# Altium schematic symbol library OP07CP.SchLib: 1 symbol
Pins are listed as number, name and electrical type; pins without a type are passive.

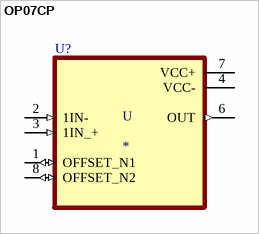
[diagram p0: symbol OP07CP]

## OP07CP
designator U
Low-Offset Voltage Operational Amplifier; MP: OP07CP; MF: Texas Instruments; Package: PDIP-8 Texas Instruments; Availability: Unavailable; Texas_Instruments-Purchase-URL: https://snapeda.com/shop?store=Texas+Instruments&id=558076; DigiKey-Purchase-URL: https://snapeda.com/shop?store=DigiKey&id=558076; Value: *; Price: None; SnapEDA_Link: https://www.snapeda.com/parts/OP07CP/Texas%20Instruments/view-part/558076/?ref=snap; Mouser-Purchase-URL: https://snapeda.com/shop?store=Mouser&id=558076
footprint DIP254P762X533-8
pins: 1 OFFSET_N1 (io), 2 1IN- (in), 3 1IN_+ (in), 4 VCC- (power), 6 OUT (out), 7 VCC+ (power), 8 OFFSET_N2 (io)
text: U?